# Altium schematic symbol library L6981C33DR.SchLib: 2 symbols
Pins are listed as number, name and electrical type; pins without a type are passive.

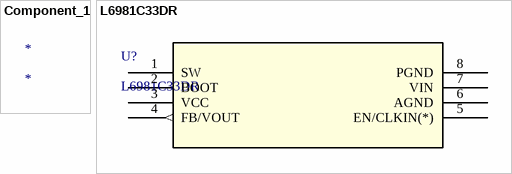
[diagram p0: symbols Component_1 to L6981C33DR]

## Component_1
designator *

## L6981C33DR
designator U?
No Description Available; Mfr_Name: STMicroelectronics; Copyright: Copyright (C) 2023 Ultra Librarian. All rights reserved.; Manufacturer_Part_Number: L6981C33DR; RefDes: RefDes; Type: DEV
footprint SO_C33DR_STM
pins: 1 SW, 2 BOOT, 3 VCC (power), 4 FB/VOUT (out), 5 EN/CLKIN(*), 6 AGND, 7 VIN, 8 PGND